# EAGLE library part J-M10-? (library VIO_module)
HARTING
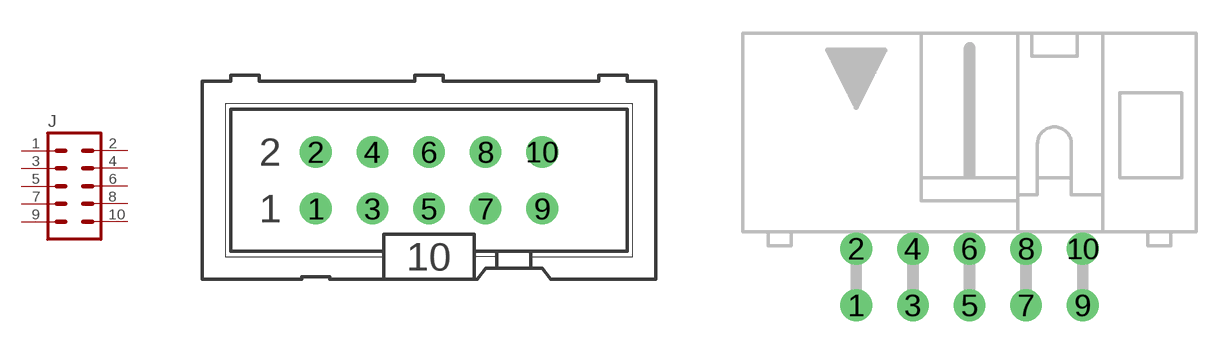
[diagram p4: symbol with the pads of J-M10-V; footprints J-M10-V, J-M10-H]

Designator prefix J

## J-M10-V  [J-M10-V]
1  1  pas
2  2  pas
3  3  pas
4  4  pas
5  5  pas
6  6  pas
7  7  pas
8  8  pas
9  9  pas
10  10  pas

## J-M10-H  [J-M10-H]
Pads as for J-M10-V

## J-M10-HL  [3M_10L]
Pads as for J-M10-V

## J-M10-  [J-M10]
Pads as for J-M10-V

## Footprint J-M10-V (pad centres in mm)
HARTING
drill 0.91 round: 1 0,0; 2 0,2.54; 3 2.54,0; 4 2.54,2.54; 5 5.08,0; 6 5.08,2.54; 7 7.62,0; 8 7.62,2.54; 9 10.16,0; 10 10.16,2.54

## Footprint J-M10-H (pad centres in mm)
HARTING
drill 0.914 round: 1 0,0; 2 0,2.54; 3 2.54,0; 4 2.54,2.54; 5 5.08,0; 6 5.08,2.54; 7 7.62,0; 8 7.62,2.54; 9 10.16,0; 10 10.16,2.54

## Footprint 3M_10L (pad centres in mm)
3M
drill 0.813 square: 1 -5.08,-5.08; 2 -5.08,-2.54; 3 -2.54,-5.08; 4 -2.54,-2.54; 5 0,-5.08; 6 0,-2.54; 7 2.54,-5.08; 8 2.54,-2.54; 9 5.08,-5.08; 10 5.08,-2.54
hole 2.54 at -10.998,-3.277
hole 2.54 at 10.998,-3.277

## Footprint J-M10 (pad centres in mm)
drill 0.914 round: 1 0,0; 2 0,2.54; 3 2.54,0; 4 2.54,2.54; 5 5.08,0; 6 5.08,2.54; 7 7.62,0; 8 7.62,2.54; 9 10.16,0; 10 10.16,2.54